# Altium footprint library DFN.PcbLib: 24 footprints (part 2 of 2)
Each footprint in its own frame and in the unit in brackets; x right, y up, seen from the top. Pads: shape width x height; smd on the part's side, far side on the other; paste and mask are expansions set on the pad; w line width, h text height; cw(c..) or ccw(c..) is an arc to the next point about the centre after c.
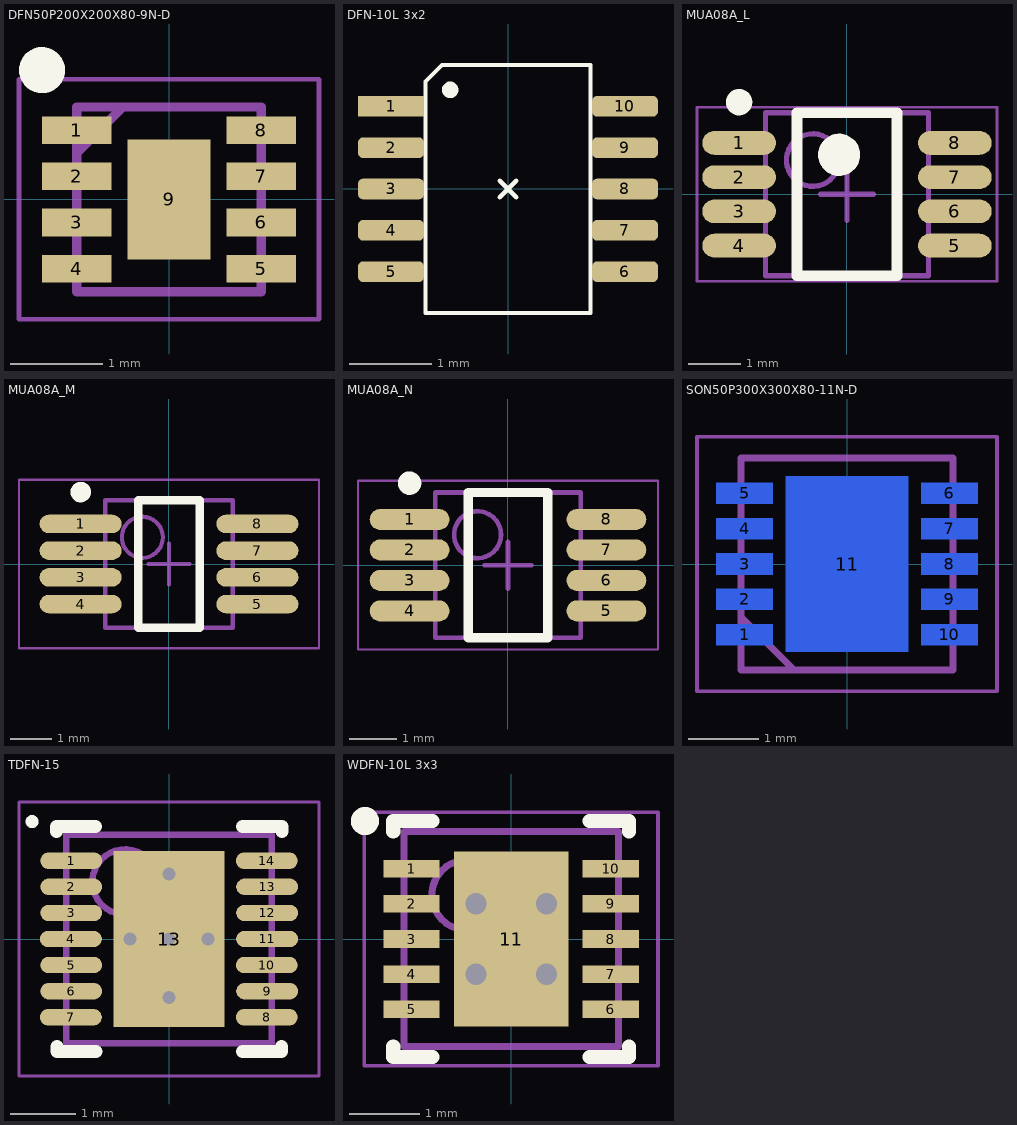
[diagram p1: the footprints below, top view; thin cyan lines are the x and y axes]

## DFN50P200X200X80-9N-D [mm]
pads (9):
  rect 0.75x0.3 smd: 1(-1,0.75) 2(-1,0.25) 3(-1,-0.25) 4(-1,-0.75) 5(1,-0.75) 6(1,-0.25) 7(1,0.25) 8(1,0.75)
  rect 0.9x1.3 smd: 9(0,0)
Top Overlay:
  circle w0.25: c-1.375,1.4 r0.125
Mechanical 13:
  lines w0.1: -1,0.5 -0.5,1 ; -1,-1 1,-1 1,1 -1,1 -1,-1
Mechanical 15:
  lines w0.05: -1.625,-1.3 1.625,-1.3 1.625,1.3 -1.625,1.3 -1.625,-1.3
3D body "MAX17048G+T10.stp": height 0.8, standoff 0, extent -1.05,-1 1.05,1

## DFN-10L 3x2 [mm] "IC GAS GAUGE ALARM OUT 10DFN"
height 0.55
pads (10):
  rect 0.8x0.25 smd: 1(-1.415,1)
  rrect50% 0.8x0.25 smd: 2(-1.415,0.5) 3(-1.415,0) 4(-1.415,-0.5) 5(-1.415,-1) 6(1.415,-1) 7(1.415,-0.5) 8(1.415,0) 9(1.415,0.5) 10(1.415,1)
Top Overlay:
  circle w0.1: c-0.7,1.2 r0.05
  lines w0.05: -0.1,-0.1 0.1,0.1 ; -0.1,0.1 0.1,-0.1 ; -1,-1.5 1,-1.5 1,1.5 -0.8,1.5 -1,1.3 -1,-1.5
3D body: height 0.6, standoff 0, extent -1.575,-1.575 1.575,1.575

## MUA08A_L [mm] "TSOP, 8-Leads, Body 3x3mm, Pitch 0.65mm, IPC High Density"
height 1.09
pads (8):
  oval 1.4x0.45 smd: 1(-2.05,0.975) 2(-2.05,0.325) 3(-2.05,-0.325) 4(-2.05,-0.975) 5(2.05,-0.975) 6(2.05,-0.325) 7(2.05,0.325) 8(2.05,0.975)
Top Overlay:
  circle w0.4: c-0.15,0.75 r0.2
  circle w0.25: c-2.05,1.75 r0.125
  lines w0.2: -0.95,-1.55 0.95,-1.55 0.95,1.55 -0.95,1.55 -0.95,-1.55
Mechanical 13:
  circle w0.1: c-0.65,0.65 r0.5
  lines w0.1: -1.55,-1.55 1.55,-1.55 1.55,1.55 -1.55,1.55 -1.55,-1.55
Mechanical 15:
  lines w0.05: -2.85,-1.65 2.85,-1.65 2.85,1.65 -2.85,1.65 -2.85,-1.65
  lines w0.1: -0.5,0 0.5,0 ; 0,-0.5 0,0.5
3D body: height 1.09, standoff 0.06, extent -1.55,-1.55 1.55,1.55

## MUA08A_M [mm] "TSOP, 8-Leads, Body 3x3mm, Pitch 0.65mm, IPC Low Density"
height 1.09
pads (8):
  oval 2x0.45 smd: 1(-2.15,0.975) 2(-2.15,0.325) 3(-2.15,-0.325) 4(-2.15,-0.975) 5(2.15,-0.975) 6(2.15,-0.325) 7(2.15,0.325) 8(2.15,0.975)
Top Overlay:
  circle w0.25: c-2.15,1.75 r0.125
  lines w0.2: -0.75,-1.55 0.75,-1.55 0.75,1.55 -0.75,1.55 -0.75,-1.55
Mechanical 13:
  circle w0.1: c-0.65,0.65 r0.5
  lines w0.1: -1.55,-1.55 1.55,-1.55 1.55,1.55 -1.55,1.55 -1.55,-1.55
Mechanical 15:
  lines w0.05: -3.65,-2.05 3.65,-2.05 3.65,2.05 -3.65,2.05 -3.65,-2.05
  lines w0.1: -0.5,0 0.5,0 ; 0,-0.5 0,0.5
3D body: height 1.09, standoff 0.06, extent -1.55,-1.55 1.55,1.55

## MUA08A_N [mm] "TSOP, 8-Leads, Body 3x3mm, Pitch 0.65mm, IPC Medium Density"
height 1.09
pads (8):
  oval 1.7x0.45 smd: 1(-2.1,0.975) 2(-2.1,0.325) 3(-2.1,-0.325) 4(-2.1,-0.975) 5(2.1,-0.975) 6(2.1,-0.325) 7(2.1,0.325) 8(2.1,0.975)
Top Overlay:
  circle w0.25: c-2.1,1.75 r0.125
  lines w0.2: -0.85,-1.55 -0.85,1.55 0.85,1.55 0.85,-1.55 -0.85,-1.55
Mechanical 13:
  circle w0.1: c-0.65,0.65 r0.5
  lines w0.1: -1.55,-1.55 -1.55,1.55 1.55,1.55 1.55,-1.55 -1.55,-1.55
Mechanical 15:
  lines w0.05: -3.2,-1.8 -3.2,1.8 3.2,1.8 3.2,-1.8 -3.2,-1.8
  lines w0.1: -0.5,0 0.5,0 ; 0,-0.5 0,0.5
3D body: height 1.09, standoff 0.06, extent -1.55,-1.55 1.55,1.55

## SON50P300X300X80-11N-D [mm]
height 2
pads (11):
  rect 0.8x0.3 smd far side: 1(-1.45,-1) 2(-1.45,-0.5) 3(-1.45,0) 4(-1.45,0.5) 5(-1.45,1) 6(1.45,1) 7(1.45,0.5) 8(1.45,0) 9(1.45,-0.5) 10(1.45,-1)
  rect 1.74x2.48 smd far side: 11(0,0)
Bottom Overlay:
  circle w0.25: c-1.85,-1.65 r0.125
Mechanical 13:
  lines w0.1: -1.5,-0.75 -0.75,-1.5 ; -1.5,-1.5 -1.5,1.5 1.5,1.5 1.5,-1.5 -1.5,-1.5
Mechanical 15:
  lines w0.05: -2.125,-1.8 -2.125,1.8 2.125,1.8 2.125,-1.8 -2.125,-1.8
3D body: height 0.8, standoff 0, extent -1.55,-1.5 1.55,1.5

## TDFN-15 [mm]
pads (15):
  oval 0.95x0.25 smd: 1(-1.5,1.2) 2(-1.5,0.8) 3(-1.5,0.4) 4(-1.505,0) 5(-1.5,-0.4) 6(-1.5,-0.8) 7(-1.505,-1.2) 8(1.5,-1.2) 9(1.505,-0.8) 10(1.5,-0.4) 11(1.505,0) 12(1.505,0.4) 13(1.505,0.8) 14(1.5,1.2)
  rect 1.7x2.7 smd: 13(0,0)
via 0.6,0 diameter 0.5 hole 0.2
via -0.6,0 diameter 0.5 hole 0.2
via 0,-0.9 diameter 0.5 hole 0.2
via 0,1 diameter 0.5 hole 0.2
via 0,0 diameter 0.5 hole 0.2
Top Overlay:
  circle w0.1: c-2.1,1.8 r0.05
  lines w0.2: -1.725,1.65 -1.725,1.725 -1.125,1.725 ; -1.72,-1.65 -1.72,-1.725 -1.12,-1.725 ; 1.125,-1.725 1.725,-1.725 1.725,-1.65 ; 1.13,1.725 1.73,1.725 1.73,1.65
Mechanical 13:
  circle w0.1: c-0.675,0.875 r0.5
  lines w0.1: -1.575,-1.6 1.575,-1.6 1.575,1.6 -1.575,1.6 -1.575,-1.6
Mechanical 15:
  lines w0.05: -2.3,-2.1 2.3,-2.1 2.3,2.1 -2.3,2.1 -2.3,-2.1
  lines w0.1: -0.5,0.2 0.5,0.2 ; 0,-0.3 0,0.7
3D body "TDFN-EP-14.step": height 0.73, standoff -0.03, extent -1.505,-1.5 1.505,1.5

## WDFN-10L 3x3 [mm]
height 0.8
pads (11):
  rect 0.8x0.25 smd: 1(-1.415,1) 2(-1.415,0.5) 3(-1.415,0) 4(-1.415,-0.5) 5(-1.415,-1) 6(1.415,-1) 7(1.415,-0.5) 8(1.415,0) 9(1.415,0.5) 10(1.415,1)
  rect 1.63x2.48 smd: 11(0,0)
via 0.5,-0.5 diameter 0.6 hole 0.3
via -0.5,-0.5 diameter 0.6 hole 0.3
via 0.5,0.5 diameter 0.6 hole 0.3
via -0.5,0.5 diameter 0.6 hole 0.3
Top Overlay:
  circle w0.2: c-2.075,1.675 r0.1
  lines w0.2: -1.675,-1.525 -1.675,-1.675 -1.115,-1.675 ; -1.675,1.525 -1.675,1.675 -1.115,1.675 ; 1.115,-1.675 1.675,-1.675 1.675,-1.525 ; 1.115,1.675 1.675,1.675 1.675,1.525
Mechanical 13:
  circle w0.1: c-0.625,0.625 r0.5
  lines w0.1: -1.525,-1.525 1.525,-1.525 1.525,1.525 -1.525,1.525 -1.525,-1.525
Mechanical 15:
  lines w0.05: -2.085,-1.8 2.085,-1.8 2.085,1.8 -2.085,1.8 -2.085,-1.8
  lines w0.1: -0.5,0 0.5,0 ; 0,-0.5 0,0.5
3D body: height 0.8, standoff 0.05, extent -1.525,-1.525 1.525,1.525